# Altium footprint library DC-IN-TH_DC005.PcbLib: 1 footprints
Each footprint in its own frame and in the unit in brackets; x right, y up, seen from the top. Pads: shape width x height; smd on the part's side, far side on the other; paste and mask are expansions set on the pad; w line width, h text height; cw(c..) or ccw(c..) is an arc to the next point about the centre after c.
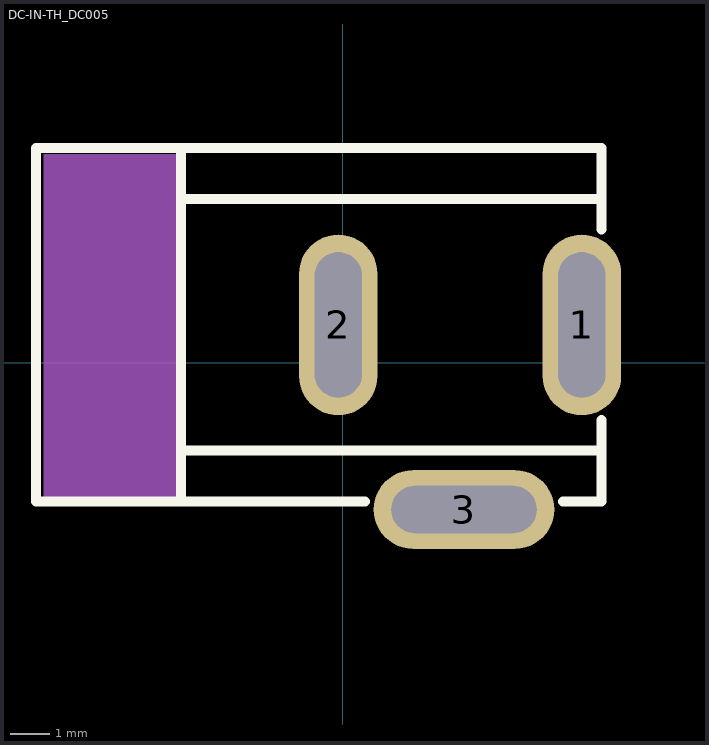
[diagram p0: the footprint, top view; thin cyan lines are the x and y axes]

## DC-IN-TH_DC005 [mm]
pads (3):
  oval 2x4.6 hole 1.2 slot 3.7 at 90 deg paste-2539.97 mask+0.051: 1(6.088,0.961) 2(-0.111,0.962)
  oval 4.6x2 hole 1.2 slot 3.7 at 0 deg paste-2539.97 mask+0.051: 3(3.089,-3.739)
Top Overlay:
  lines w0.254: -4.111,-3.538 -4.111,5.462 ; -4.031,-2.238 6.589,-2.238 ; -4.031,4.161 6.589,4.161 ; 0.574,-3.538 -7.811,-3.538 -7.811,5.462 6.589,5.462 6.589,3.386 ; 5.603,-3.538 6.589,-3.538 6.589,-1.463
Mechanical 15:
  region: -7.611,5.311 -4.211,5.311 -4.211,-3.489 -7.611,-3.489